# EAGLE library part TLC555CDR (library pimoroni-ics)
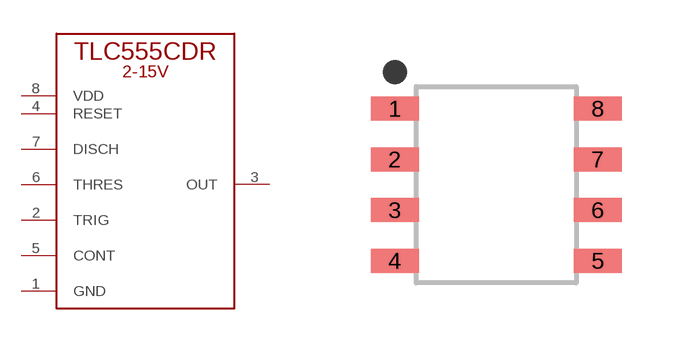
[diagram p127: symbol with the pads of SOIC8-150MIL; footprint SOIC8-150MIL]

Designator prefix U

## TLC555CDR  [SOIC8-150MIL]
1  GND
2  TRIG
3  OUT
4  RESET
5  CONT
6  THRES
7  DISCH
8  VDD

## Footprint SOIC8-150MIL (pad centres in mm)
smd 1.2 x 0.6: 1 -2.54,1.905; 2 -2.54,0.635; 3 -2.54,-0.635; 4 -2.54,-1.905; 5 2.54,-1.905; 6 2.54,-0.635; 7 2.54,0.635; 8 2.54,1.905